# Altium footprint library K60-mainboard-v3.1.PcbLib: 108 footprints (part 4 of 7)
Each footprint in its own frame and in the unit in brackets; x right, y up, seen from the top. Pads: shape width x height; smd on the part's side, far side on the other; paste and mask are expansions set on the pad; w line width, h text height; cw(c..) or ccw(c..) is an arc to the next point about the centre after c.
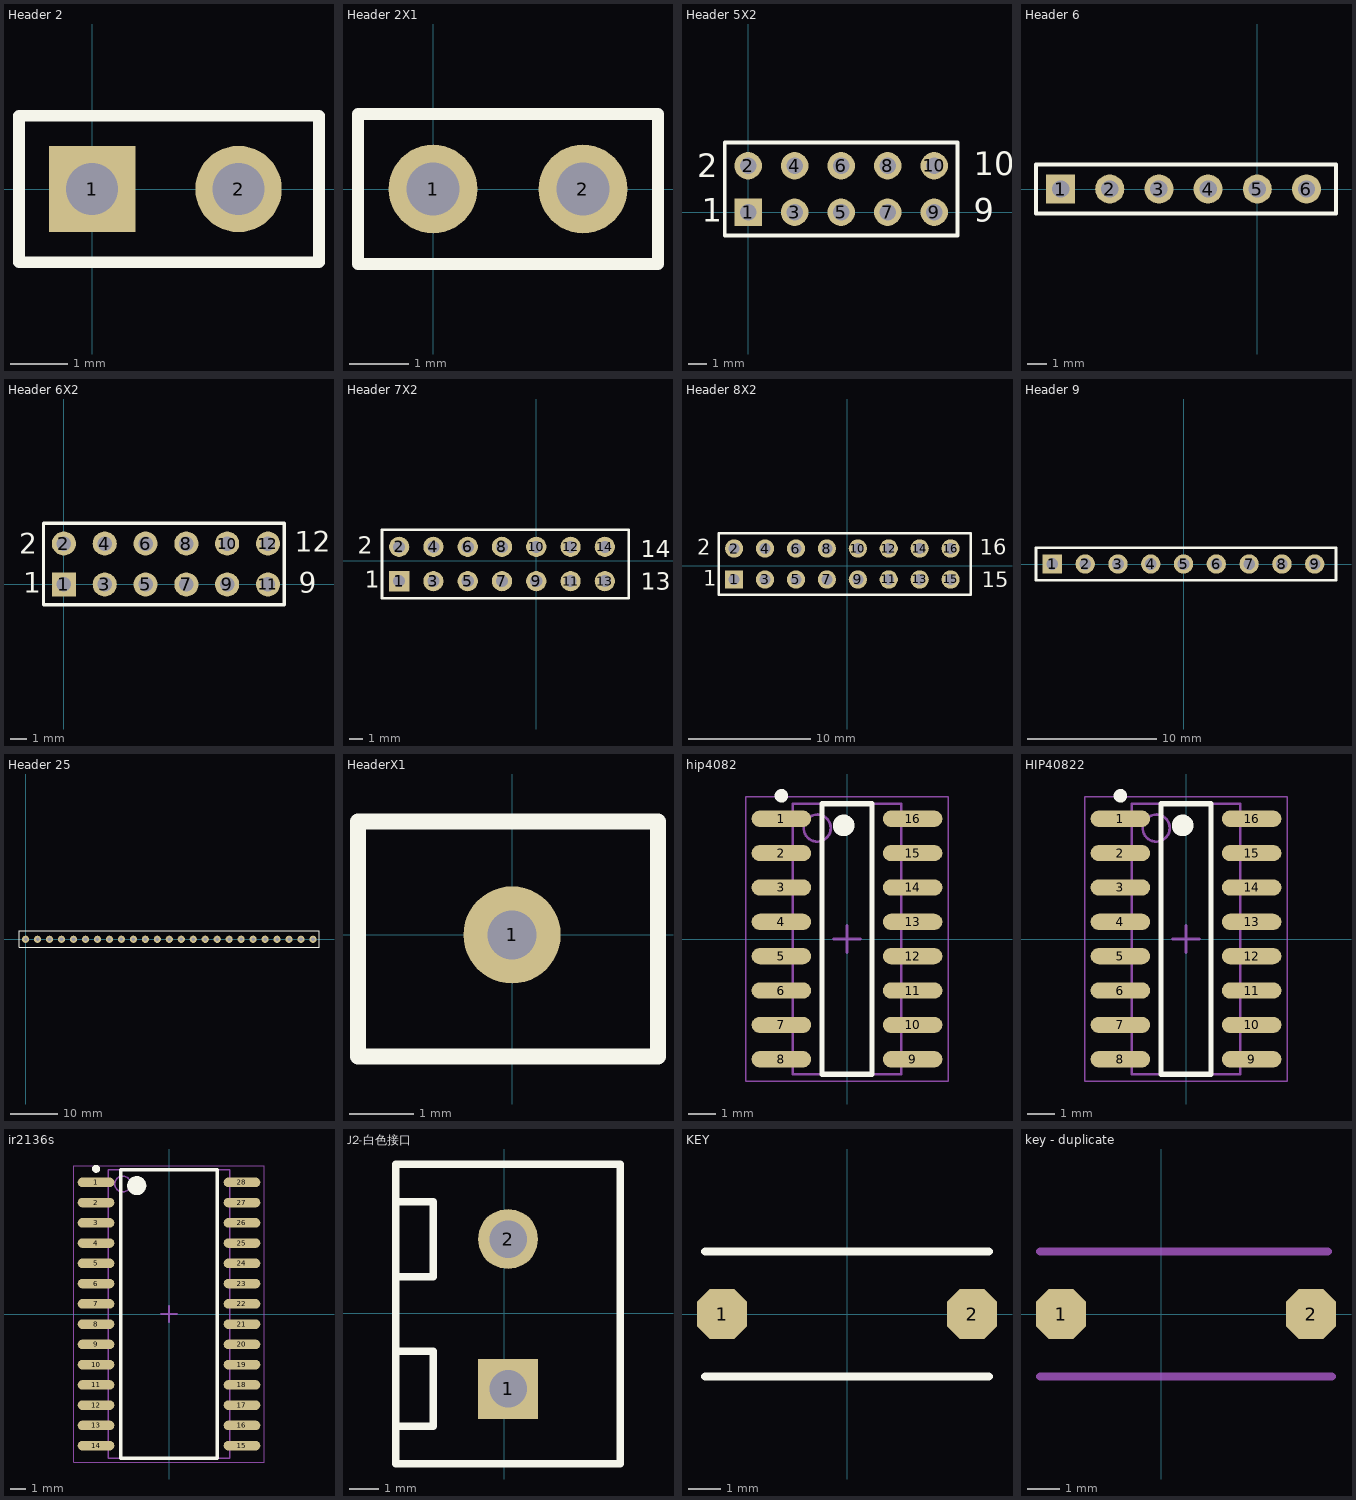
[diagram p3: the footprints below, top view; thin cyan lines are the x and y axes]

## Header 2 [mm]
pads (2):
  rect 1.5x1.5 hole 0.9: 1(0,0)
  round 1.5 hole 0.9: 2(2.54,0)
Top Overlay:
  lines w0.2: -1.27,-1.27 3.937,-1.27 3.937,1.27 -1.27,1.27 -1.27,-1.27

## Header 2X1 [mm]
pads (2):
  round 1.5 hole 0.9: 1(0,0) 2(2.54,0)
Top Overlay:
  lines w0.2: -1.27,-1.27 3.81,-1.27 3.81,1.27 -1.27,1.27 -1.27,-1.27

## Header 5X2 [mm]
pads (10):
  rect 1.5x1.5 hole 0.9: 1(0,0)
  round 1.5 hole 0.9: 2(0,2.54) 3(2.54,0) 4(2.54,2.54) 5(5.08,0) 6(5.08,2.54) 7(7.62,0) 8(7.62,2.54) 9(10.16,0) 10(10.16,2.54)
Top Overlay:
  lines w0.2: -1.27,-1.27 11.43,-1.27 11.43,3.81 -1.27,3.81 -1.27,-1.27
  text "10" at 12.319,2.032 h1.27
  text "9" at 12.319,-0.508 h1.27
  text "1" at -2.54,-0.508 h1.27
  text "2" at -2.794,1.905 h1.27

## Header 6 [mm]
pads (6):
  rect 1.5x1.5 hole 0.9: 1(-10.16,0)
  round 1.5 hole 0.9: 2(-7.62,0) 3(-5.08,0) 4(-2.54,0) 5(0,0) 6(2.54,0)
Top Overlay:
  lines w0.2: -11.43,-1.27 -11.43,1.27 4.064,1.27 4.064,-1.27 -11.43,-1.27

## Header 6X2 [mm]
pads (12):
  rect 1.5x1.5 hole 0.9: 1(0,0)
  round 1.5 hole 0.9: 2(0,2.54) 3(2.54,0) 4(2.54,2.54) 5(5.08,0) 6(5.08,2.54) 7(7.62,0) 8(7.62,2.54) 9(10.16,0) 10(10.16,2.54) 11(12.7,0) 12(12.7,2.54)
Top Overlay:
  lines w0.2: -1.27,-1.27 13.716,-1.27 13.716,3.81 -1.27,3.81 -1.27,-1.27
  text "12" at 14.351,2.032 h1.27
  text "9" at 14.605,-0.508 h1.27
  text "1" at -2.54,-0.508 h1.27
  text "2" at -2.794,1.905 h1.27

## Header 7X2 [mm]
pads (14):
  rect 1.5x1.5 hole 0.9: 1(-10.16,-1.524)
  round 1.5 hole 0.9: 2(-10.16,1.016) 3(-7.62,-1.524) 4(-7.62,1.016) 5(-5.08,-1.524) 6(-5.08,1.016) 7(-2.54,-1.524) 8(-2.54,1.016) 9(0,-1.524) 10(0,1.016) 11(2.54,-1.524) 12(2.54,1.016) 13(5.08,-1.524) 14(5.08,1.016)
Top Overlay:
  lines w0.2: -11.43,-2.794 6.858,-2.794 6.858,2.286 -11.43,2.286 -11.43,-2.794
  text "14" at 7.747,0.254 h1.27
  text "13" at 7.747,-2.159 h1.27
  text "1" at -12.7,-2.032 h1.27
  text "2" at -13.208,0.508 h1.27

## Header 8X2 [mm]
pads (16):
  rect 1.5x1.5 hole 0.9: 1(-9.271,-1.143)
  round 1.5 hole 0.9: 2(-9.271,1.397) 3(-6.731,-1.143) 4(-6.731,1.397) 5(-4.191,-1.143) 6(-4.191,1.397) 7(-1.651,-1.143) 8(-1.651,1.397) 9(0.889,-1.143) 10(0.889,1.397) 11(3.429,-1.143) 12(3.429,1.397) 13(5.969,-1.143) 14(5.969,1.397) 15(8.509,-1.143) 16(8.509,1.397)
Top Overlay:
  lines w0.2: -10.541,-2.413 10.16,-2.413 10.16,2.667 -10.541,2.667 -10.541,-2.413
  text "16" at 10.922,0.889 h1.27
  text "15" at 11.049,-1.778 h1.27
  text "1" at -11.811,-1.651 h1.27
  text "2" at -12.319,0.889 h1.27

## Header 9 [mm]
pads (9):
  rect 1.5x1.5 hole 0.9: 1(-10.16,0)
  round 1.5 hole 0.9: 2(-7.62,0) 3(-5.08,0) 4(-2.54,0) 5(0,0) 6(2.54,0) 7(5.08,0) 8(7.62,0) 9(10.16,0)
Top Overlay:
  lines w0.2: -11.43,-1.27 -11.43,1.27 11.811,1.27 11.811,-1.27 -11.43,-1.27

## Header 25 [mil]
pads (25):
  round 60 hole 30: 1(0,0) 2(100,0) 3(200,0) 4(300,0) 5(400,0) 6(500,0) 7(600,0) 8(700,0) 9(800,0) 10(900,0) 11(1000,0) 12(1100,0) 13(1200,0) 14(1300,0) 15(1400,0) 16(1500,0) 17(1600,0) 18(1700,0) 19(1800,0) 20(1900,0) 21(2000,0) 22(2100,0) 23(2200,0) 24(2300,0) 25(2400,0)
Top Overlay:
  lines w10: -55,-65 2450,-65 2450,70 -45,70 -55,70 -55,-65

## HeaderX1 [mil]
pads (1):
  round 60 hole 30: 1(0,0)
Top Overlay:
  lines w10: -95,-75 -95,70 90,70 90,-75 -95,-75

## hip4082 [mm] "TSOP, 16-Leads, Body 10.00x3.90mm, Pitch 1.27mm, IPC Medium Density"
height 1.5
pads (16):
  oval 2.2x0.6 smd: 1(-2.425,4.445) 2(-2.425,3.175) 3(-2.425,1.905) 4(-2.425,0.635) 5(-2.425,-0.635) 6(-2.425,-1.905) 7(-2.425,-3.175) 8(-2.425,-4.445) 9(2.425,-4.445) 10(2.425,-3.175) 11(2.425,-1.905) 12(2.425,-0.635) 13(2.425,0.635) 14(2.425,1.905) 15(2.425,3.175) 16(2.425,4.445)
Top Overlay:
  circle w0.25: c-2.425,5.295 r0.125
  circle w0.4: c-0.125,4.2 r0.2
  lines w0.2: -0.925,-5 -0.925,5 0.925,5 0.925,-5 -0.925,-5
Mechanical 13:
  circle w0.1: c-1.1,4.1 r0.5
  lines w0.1: -2,-5 -2,5 2,5 2,-5 -2,-5
Mechanical 15:
  lines w0.05: -3.75,-5.25 -3.75,5.25 3.75,5.25 3.75,-5.25 -3.75,-5.25
  lines w0.1: -0.5,0 0.5,0 ; 0,-0.5 0,0.5
3D body: height 1.75, standoff 0.1, extent -1.492,-4.365 2.508,5.635

## HIP40822 [mm]
height 1.75
pads (16):
  oval 2.2x0.6 smd: 1(-2.425,4.445) 2(-2.425,3.175) 3(-2.425,1.905) 4(-2.425,0.635) 5(-2.425,-0.635) 6(-2.425,-1.905) 7(-2.425,-3.175) 8(-2.425,-4.445) 9(2.425,-4.445) 10(2.425,-3.175) 11(2.425,-1.905) 12(2.425,-0.635) 13(2.425,0.635) 14(2.425,1.905) 15(2.425,3.175) 16(2.425,4.445)
Top Overlay:
  circle w0.25: c-2.425,5.295 r0.125
  circle w0.4: c-0.125,4.2 r0.2
  lines w0.2: -0.925,-5 -0.925,5 0.925,5 0.925,-5 -0.925,-5
Mechanical 13:
  circle w0.1: c-1.1,4.1 r0.5
  lines w0.1: -2,-5 -2,5 2,5 2,-5 -2,-5
Mechanical 15:
  lines w0.05: -3.75,-5.25 -3.75,5.25 3.75,5.25 3.75,-5.25 -3.75,-5.25
  lines w0.1: -0.5,0 0.5,0 ; 0,-0.5 0,0.5
3D body: height 1.75, standoff 0.1, extent -2,-5 2,5

## ir2136s [mm]
height 1.7
pads (28):
  oval 2.3x0.6 smd: 1(-4.575,8.255) 2(-4.575,6.985) 3(-4.575,5.715) 4(-4.575,4.445) 5(-4.575,3.175) 6(-4.575,1.905) 7(-4.575,0.635) 8(-4.575,-0.635) 9(-4.575,-1.905) 10(-4.575,-3.175) 11(-4.575,-4.445) 12(-4.575,-5.715) 13(-4.575,-6.985) 14(-4.575,-8.255) 15(4.575,-8.255) 16(4.575,-6.985) 17(4.575,-5.715) 18(4.575,-4.445) 19(4.575,-3.175) 20(4.575,-1.905) 21(4.575,-0.635) 22(4.575,0.635) 23(4.575,1.905) 24(4.575,3.175) 25(4.575,4.445) 26(4.575,5.715) 27(4.575,6.985) 28(4.575,8.255)
Top Overlay:
  circle w0.6: c-2.025,8.05 r0.3
  circle w0.25: c-4.575,9.105 r0.125
  lines w0.2: -3.025,-9.05 3.025,-9.05 3.025,9.05 -3.025,9.05 -3.025,-9.05
Mechanical 13:
  circle w0.1: c-2.9,8.15 r0.5
  lines w0.1: -3.8,-9.05 3.8,-9.05 3.8,9.05 -3.8,9.05 -3.8,-9.05
Mechanical 15:
  lines w0.05: -5.975,-9.3 5.975,-9.3 5.975,9.3 -5.975,9.3 -5.975,-9.3
  lines w0.1: -0.5,0 0.5,0 ; 0,-0.5 0,0.5
3D body: height 1.7, standoff 0.1, extent -3.8,-9.05 3.8,9.05

## J2-白色接口 [mil]
pads (2):
  rect 80x80 hole 50: 1(5,-101)
  round 80 hole 50: 2(5,99)
Top Overlay:
  lines w10: -145,-151 -95,-151 -95,-51 -145,-51 ; -145,49 -95,49 -95,149 -145,149 ; -145,-201 -145,199 155,199 155,-201 -145,-201

## KEY [mil]
pads (2):
  oct 60x60 smd: 1(-150,0) 2(150,0)
Top Overlay:
  lines w10: -170,-75 170,-75 ; -170,75 170,75

## key - duplicate [mil]
pads (2):
  oct 60x60 smd: 1(-120,0) 2(180,0)
Mechanical 15:
  lines w10: -145,-75 205,-75 ; -145,75 200,75